# Altium footprint library SAMTEC_HLE-120-02-F-DV.PcbLib: 1 footprints
Each footprint in its own frame and in the unit in brackets; x right, y up, seen from the top. Pads: shape width x height; smd on the part's side, far side on the other; paste and mask are expansions set on the pad; w line width, h text height; cw(c..) or ccw(c..) is an arc to the next point about the centre after c.
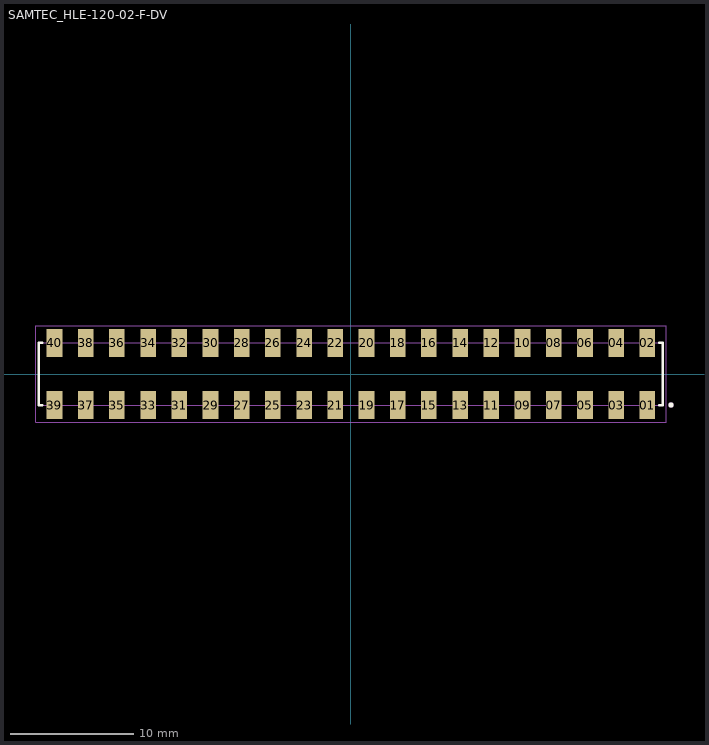
[diagram p0: the footprint, top view; thin cyan lines are the x and y axes]

## SAMTEC_HLE-120-02-F-DV [mm]
pads (40):
  rect 1.27x2.29 smd: 01(24.13,-2.525) 02(24.13,2.525) 03(21.59,-2.525) 04(21.59,2.525) 05(19.05,-2.525) 06(19.05,2.525) 07(16.51,-2.525) 08(16.51,2.525) 09(13.97,-2.525) 10(13.97,2.525) 11(11.43,-2.525) 12(11.43,2.525) 13(8.89,-2.525) 14(8.89,2.525) 15(6.35,-2.525) 16(6.35,2.525) 17(3.81,-2.525) 18(3.81,2.525) 19(1.27,-2.525) 20(1.27,2.525) 21(-1.27,-2.525) 22(-1.27,2.525) 23(-3.81,-2.525) 24(-3.81,2.525) 25(-6.35,-2.525) 26(-6.35,2.525) 27(-8.89,-2.525) 28(-8.89,2.525) 29(-11.43,-2.525) 30(-11.43,2.525) 31(-13.97,-2.525) 32(-13.97,2.525) 33(-16.51,-2.525) 34(-16.51,2.525) 35(-19.05,-2.525) 36(-19.05,2.525) 37(-21.59,-2.525) 38(-21.59,2.525) 39(-24.13,-2.525) 40(-24.13,2.525)
Top Overlay:
  circle w0.2: c26.05,-2.525 r0.1
  lines w0.2: -25.115,-2.54 -25.4,-2.54 -25.4,2.54 -25.115,2.54 ; 25.115,-2.54 25.4,-2.54 25.4,2.54 25.115,2.54
Mechanical 13:
  circle w0.2: c26.05,-2.525 r0.1
  lines w0.1: -25.4,-2.54 -25.4,2.54 ; -25.4,-2.54 25.4,-2.54 ; -25.4,-2.54 -25.4,2.54 ; -25.4,2.54 25.4,2.54 ; -25.4,2.54 25.4,2.54 ; 25.4,-2.54 25.4,2.54 ; 25.4,-2.54 25.4,2.54
Mechanical 15:
  lines w0.05: -25.65,-3.92 -25.65,3.92 25.65,3.92 25.65,-3.92 -25.65,-3.92